# EAGLE library part TIMER-TPL5110 (library FlashPCB_ICs)
TPL5110 - IC OSC PROG TIMER TSOT23-6 Technical Specifications: Programmable Timer IC SOT-23-THIN Supply Voltage" 1.8V~5.5V Current Consumption @ 2.5V: 35nA Timer Accuracy: 1% Selectable Timer Intervals: 100ms to 7200s Component Search: TPL5110 <https://www.flashpcb.com/components> Datasheet: TPL5110 Nano-Power System Timer for Power Gating datasheet (Rev. A) <https://www.ti.com/lit/ds/symlink/tpl5110.pdf?HQS=dis-dk-null-digikeymode-dsf-pf-null-wwe&ts=1685635088641&ref_url=https%253A%252F%252Fwww.ti.com%252Fgeneral%252Fdocs%252Fsuppproductinfo.tsp%253FdistId%253D10%2526gotoUrl%253Dhttps%253A%252F%252Fwww.ti.com%252Flit%252Fgpn%252Ftpl5110>
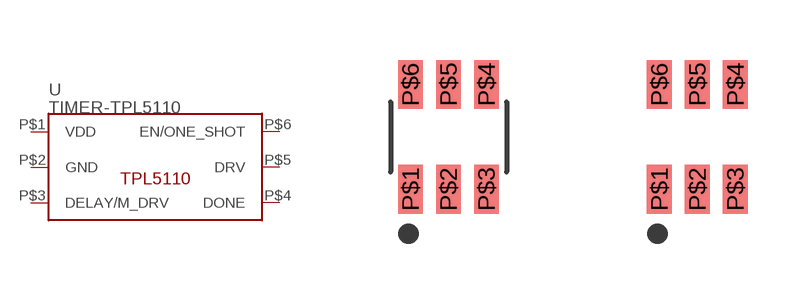
[diagram p86: symbol with the pads of SOT-23-6; footprints SOT-23-6, SOT-23-6_NOSILK]

Designator prefix U

## TIMER-TPL5110DDC  [SOT-23-6]
P$1  VDD
P$2  GND
P$3  DELAY/M_DRV
P$4  DONE
P$5  DRV
P$6  EN/ONE_SHOT

## TIMER-TPL5110DDC_NOSILK  [SOT-23-6_NOSILK]
Pads as for SOT-23-6

## Footprint SOT-23-6 (pad centres in mm)
smd 0.62 x 1.22: P$1 -0.95,-1.31; P$2 0,-1.31; P$3 0.95,-1.31; P$4 0.95,1.31; P$5 0,1.31; P$6 -0.95,1.31

## Footprint SOT-23-6_NOSILK (pad centres in mm)
smd 0.62 x 1.22: P$1 -0.95,-1.31; P$2 0,-1.31; P$3 0.95,-1.31; P$4 0.95,1.31; P$5 0,1.31; P$6 -0.95,1.31